# Altium footprint library HDR-TH_5P-P2.00-V-M.PcbLib: 1 footprints
Each footprint in its own frame and in the unit in brackets; x right, y up, seen from the top. Pads: shape width x height; smd on the part's side, far side on the other; paste and mask are expansions set on the pad; w line width, h text height; cw(c..) or ccw(c..) is an arc to the next point about the centre after c.
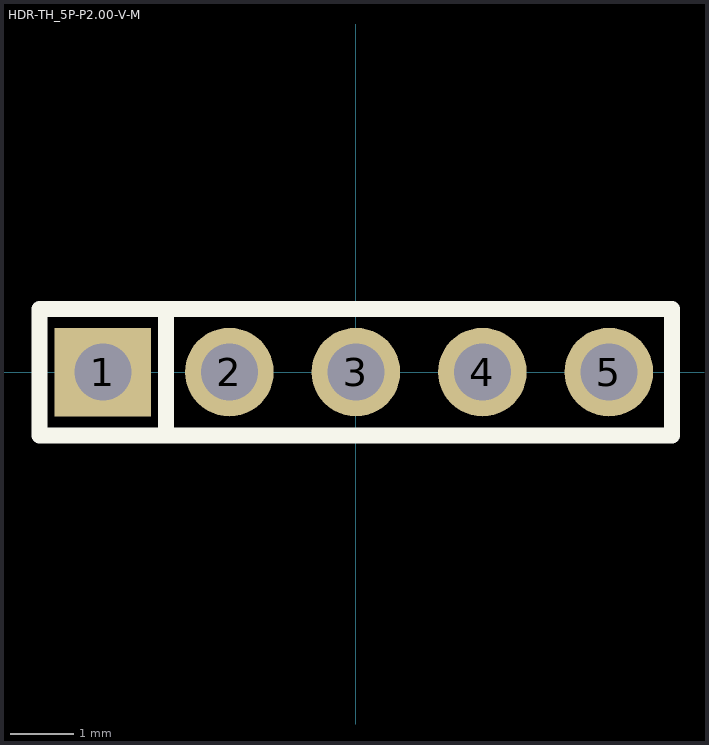
[diagram p0: the footprint, top view; thin cyan lines are the x and y axes]

## HDR-TH_5P-P2.00-V-M [mm]
pads (5):
  rect 1.524x1.4 hole 0.9 paste-2539.97 mask+0.051: 1(-4,0)
  round 1.4 hole 0.9 paste-2539.97 mask+0.051: 2(-2,0) 3(0,0) 4(2,0) 5(4,0)
Top Overlay:
  lines w0.254: -3,-1 -3,1 ; -5,-1 5,-1 5,1 -5,1 -5,-1
Mechanical 15:
  region: -4.94,-1 -4.94,-0.975 -4.975,-0.94 -5.025,-0.94 -5.06,-0.975 -5.06,-1 -5.06,-1.025 -5.025,-1.06 -4.975,-1.06 -4.94,-1.025 -4.94,-1
  region: -4.25,0.25 -3.75,0.25 -3.75,-0.25 -4.25,-0.25
  region: -2.25,0.25 -1.75,0.25 -1.75,-0.25 -2.25,-0.25
  region: -0.25,0.25 0.25,0.25 0.25,-0.25 -0.25,-0.25
  region: 1.75,0.25 2.25,0.25 2.25,-0.25 1.75,-0.25
  region: 3.75,0.25 4.25,0.25 4.25,-0.25 3.75,-0.25
  lines w0.051: -5,-1 5,-1 5,1 -5,1 -5,-1
3D body "PinHeader_1x05_P2.54mm_Horizontal_SMD_Right.step": height 8.6, standoff -2.9, extent -6.203,-1.357 6.457,1.143